# EAGLE library part 74HC4051 (library Bauteile)
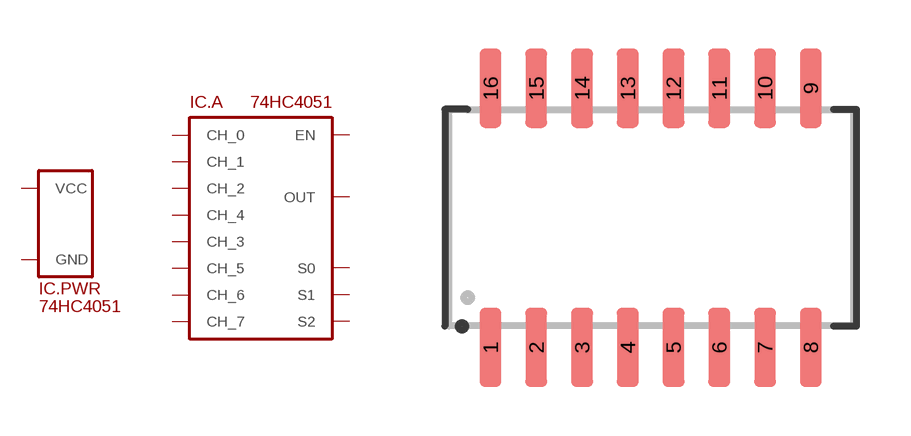
[diagram p71: symbol with the pads of SOP16; footprint SOP16]

Designator prefix IC; gates .PWR=SUPPLY_VCC/GND .A=74HC4051

## 74HC4051  [SOP16]
1  .A:CH_4
2  .A:CH_6
3  .A:OUT
4  .A:CH_7
5  .A:CH_5
6  .A:EN
7  .PWR:VCC
8  .PWR:GND
9  .A:S2
10  .A:S1
11  .A:S0
12  .A:CH_3
13  .A:CH_0
14  .A:CH_1
15  .A:CH_2
16  .PWR:VCC

## Footprint SOP16 (pad centres in mm)
smd 0.6 x 2.2: 1 -4.445,-3.6; 2 -3.175,-3.6; 3 -1.905,-3.6; 4 -0.635,-3.6; 5 0.635,-3.6; 6 1.905,-3.6; 7 3.175,-3.6; 8 4.445,-3.6; 9 4.445,3.6; 10 3.175,3.6; 11 1.905,3.6; 12 0.635,3.6; 13 -0.635,3.6; 14 -1.905,3.6; 15 -3.175,3.6; 16 -4.445,3.6